# Altium footprint library PcbLib1.PcbLib: 2 footprints
Each footprint in its own frame and in the unit in brackets; x right, y up, seen from the top. Pads: shape width x height; smd on the part's side, far side on the other; paste and mask are expansions set on the pad; w line width, h text height; cw(c..) or ccw(c..) is an arc to the next point about the centre after c.
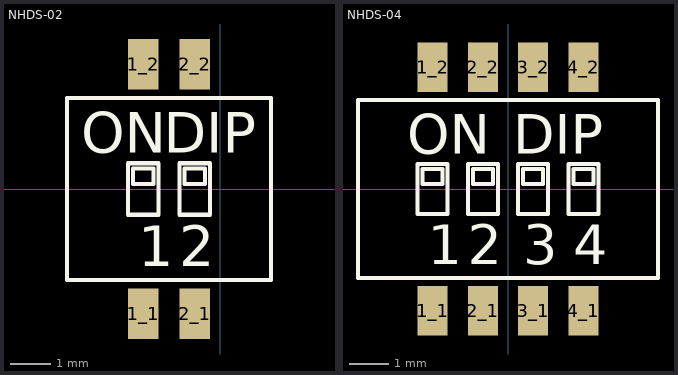
[diagram p0: the footprints below, top view; thin cyan lines are the x and y axes]

## NHDS-02 [mm] "1.27mm SMT DIP switch 2 positions"
height 1.5
pads (4):
  rect 0.76x1.25 smd: 1_1(-1.905,-3.075) 1_2(-1.905,3.075) 2_1(-0.635,-3.075) 2_2(-0.635,3.075)
Top Overlay:
  lines w0.1: -3.79,-2.25 -3.79,2.25 1.25,2.25 1.25,-2.25 -3.79,-2.25 ; -2.286,-0.635 -1.524,-0.635 -1.524,0.635 -2.286,0.635 -2.286,-0.635 ; -2.159,0.127 -2.159,0.508 -1.651,0.508 -1.651,0.127 -2.159,0.127 ; -1.016,-0.635 -1.016,0.635 -0.254,0.635 -0.254,-0.635 -1.016,-0.635 ; -0.889,0.127 -0.381,0.127 -0.381,0.508 -0.889,0.508 -0.889,0.127
  text "DIP" at -1.397,0.889 h1
  text "ON" at -3.429,0.889 h1
  text "2" at -1.016,-1.905 h1
  text "1" at -2.032,-1.905 h1
Mechanical 13:
  lines w0.1: -3.79,-2.25 -3.79,2.25 1.25,2.25 1.25,-2.25 -3.79,-2.25

## NHDS-04 [mm] "1.27mm SMT DIP switch 4 positions"
height 1.5
pads (8):
  rect 0.76x1.25 smd: 1_1(-1.905,-3.075) 1_2(-1.905,3.075) 2_1(-0.635,-3.075) 2_2(-0.635,3.075) 3_1(0.635,-3.075) 3_2(0.635,3.075) 4_1(1.905,-3.075) 4_2(1.905,3.075)
Top Overlay:
  lines w0.1: -3.79,-2.25 -3.79,2.25 3.79,2.25 3.79,-2.25 -3.79,-2.25 ; -2.286,-0.635 -1.524,-0.635 -1.524,0.635 -2.286,0.635 -2.286,-0.635 ; -2.159,0.127 -2.159,0.508 -1.651,0.508 -1.651,0.127 -2.159,0.127 ; -1.016,-0.635 -1.016,0.635 -0.254,0.635 -0.254,-0.635 -1.016,-0.635 ; -0.889,0.127 -0.381,0.127 -0.381,0.508 -0.889,0.508 -0.889,0.127 ; 0.254,-0.635 0.254,0.635 1.016,0.635 1.016,-0.635 0.254,-0.635 ; 0.381,0.127 0.889,0.127 0.889,0.508 0.381,0.508 0.381,0.127 ; 1.524,-0.635 1.524,0.635 2.286,0.635 2.286,-0.635 1.524,-0.635 ; 1.651,0.127 2.159,0.127 2.159,0.508 1.651,0.508 1.651,0.127
  text "DIP" at 0.127,0.889 h1
  text "ON" at -2.54,0.889 h1
  text "4" at 1.651,-1.905 h1
  text "3" at 0.381,-1.905 h1
  text "2" at -1.016,-1.905 h1
  text "1" at -2.032,-1.905 h1
Mechanical 13:
  lines w0.1: -3.79,-2.25 -3.79,2.25 3.79,2.25 3.79,-2.25 -3.79,-2.25